# Altium footprint library A_Semi.PcbLib: 47 footprints (part 2 of 3)
Each footprint in its own frame and in the unit in brackets; x right, y up, seen from the top. Pads: shape width x height; smd on the part's side, far side on the other; paste and mask are expansions set on the pad; w line width, h text height; cw(c..) or ccw(c..) is an arc to the next point about the centre after c.
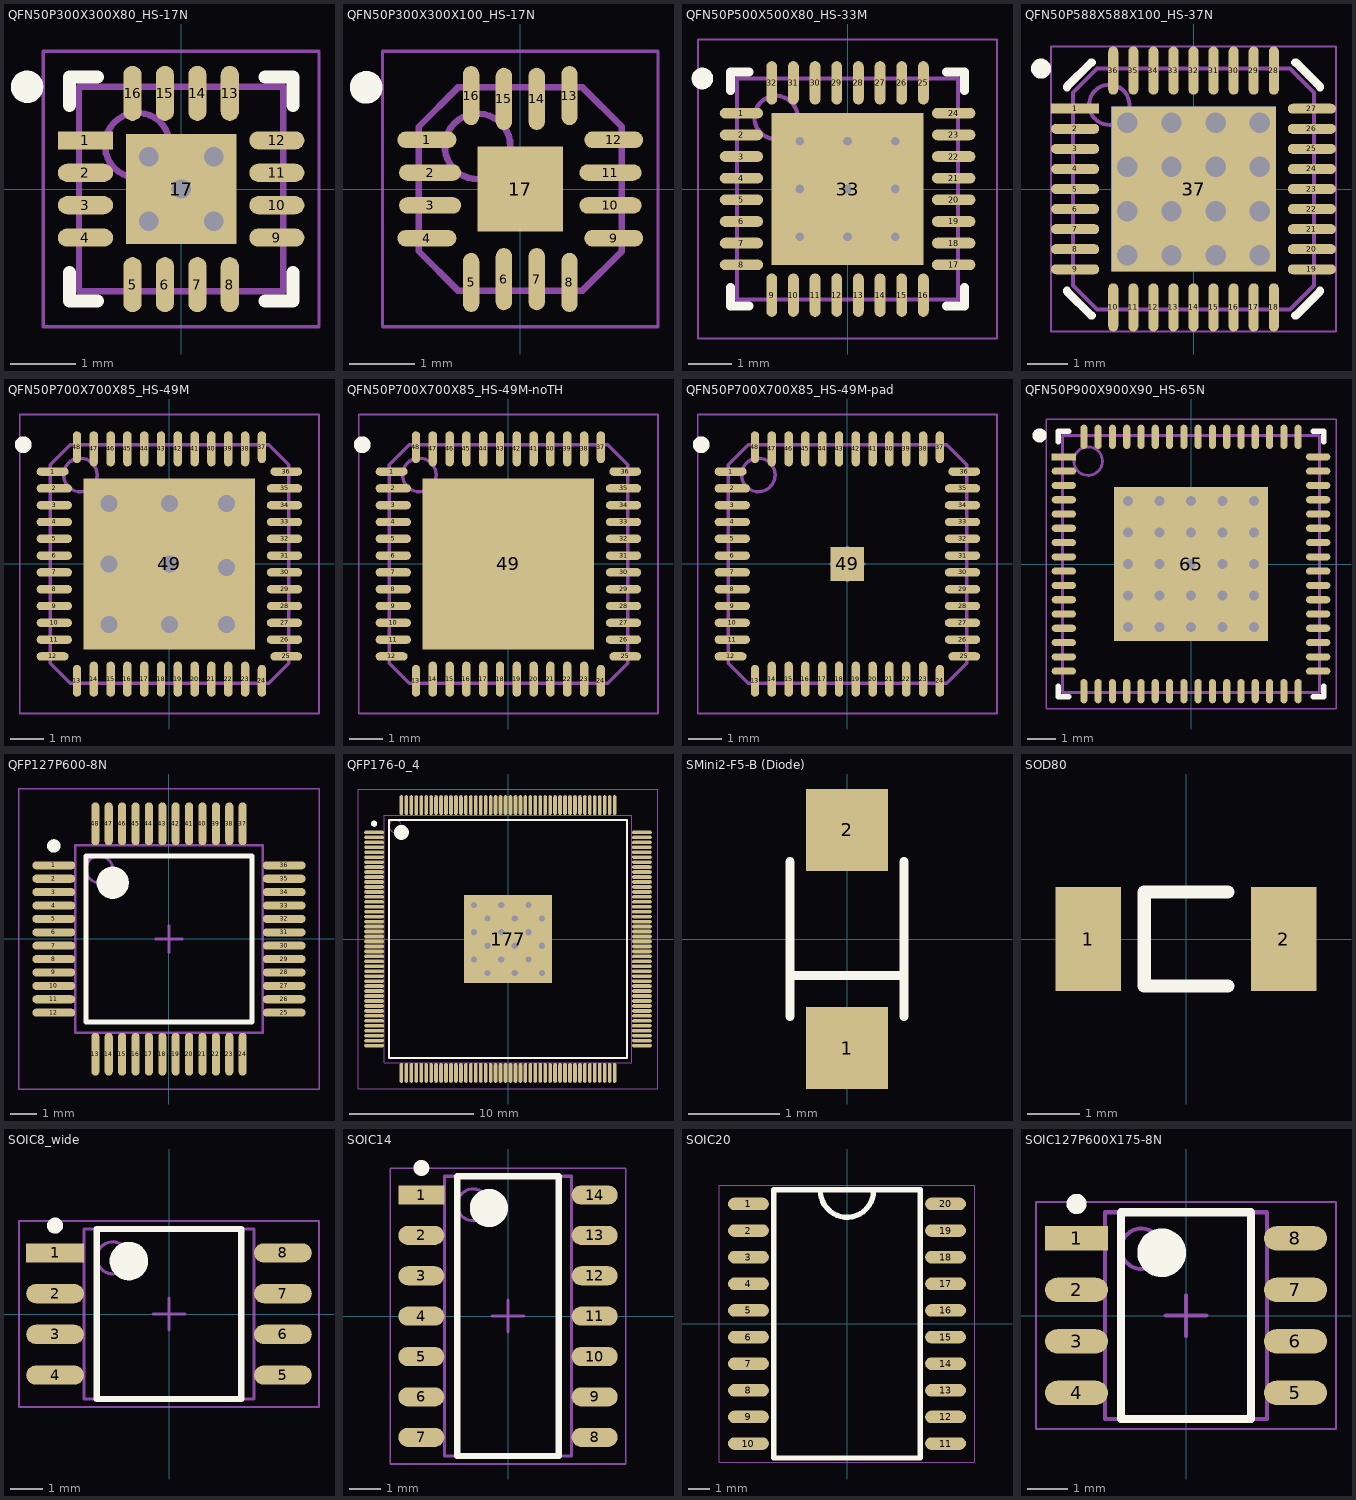
[diagram p1: the footprints below, top view; thin cyan lines are the x and y axes]

## QFN50P300X300X80_HS-17N [mm] "QFN, 16-Leads, Body 3.00x3.00mm, Pitch 0.50mm, Thermal Pad 1.70x1.70mm, IPC Medium Density"
height 0.8
pads (17):
  rect 0.85x0.28 smd mask+0.08: 1(-1.475,0.75)
  oval 0.85x0.28 smd mask+0.08: 2(-1.475,0.25) 3(-1.475,-0.25) 4(-1.475,-0.75) 9(1.475,-0.75) 10(1.475,-0.25) 11(1.475,0.25) 12(1.475,0.75)
  oval 0.28x0.85 smd mask+0.08: 5(-0.75,-1.475) 6(-0.25,-1.475) 7(0.25,-1.475) 8(0.75,-1.475) 13(0.75,1.475) 14(0.25,1.475) 15(-0.25,1.475) 16(-0.75,1.475)
  rect 1.7x1.7 smd mask+0.08: 17(0,0)
via 0.5,0.5 diameter 0.6 hole 0.3
via 0.5,-0.5 diameter 0.6 hole 0.3
via -0.5,-0.5 diameter 0.6 hole 0.3
via -0.5,0.5 diameter 0.6 hole 0.3
via 0,0 diameter 0.6 hole 0.3
Top Overlay:
  circle w0.25: c-2.375,1.575 r0.125
  lines w0.2: -1.725,-1.29 -1.725,-1.725 -1.29,-1.725 ; -1.725,1.29 -1.725,1.725 -1.29,1.725 ; 1.29,-1.725 1.725,-1.725 1.725,-1.29 ; 1.29,1.725 1.725,1.725 1.725,1.29
Mechanical 13:
  circle w0.1: c-0.675,0.675 r0.5
  lines w0.1: -1.575,-1.575 1.575,-1.575 1.575,1.575 -1.575,1.575 -1.575,-1.575
Mechanical 15:
  lines w0.05: -2.125,-2.125 2.125,-2.125 2.125,2.125 -2.125,2.125 -2.125,-2.125
  lines w0.1: -0.5,0 0.5,0 ; 0,-0.5 0,0.5
3D body: height 0.8, standoff 0.02, extent -1.575,-1.575 1.575,1.575

## QFN50P300X300X100_HS-17N [mm] "QFN, 16-Leads, Body 3.00x3.00mm, Pitch 0.50mm, Thermal Pad 1.40x1.40mm, IPC Medium Density"
height 1
pads (17):
  oval 0.9x0.25 smd: 1(-1.425,0.75) 4(-1.425,-0.75) 9(1.425,-0.75) 12(1.425,0.75)
  oval 0.95x0.25 smd: 2(-1.375,0.25) 3(-1.375,-0.25) 10(1.375,-0.25) 11(1.375,0.25)
  oval 0.25x0.9 smd: 5(-0.75,-1.425) 8(0.75,-1.425) 13(0.75,1.425) 16(-0.75,1.425)
  oval 0.25x0.95 smd: 6(-0.25,-1.375) 7(0.25,-1.375) 14(0.25,1.375) 15(-0.25,1.375)
  rect 1.3x1.3 smd: 17(0,0)
Top Overlay:
  circle w0.25: c-2.35,1.55 r0.125
Mechanical 13:
  circle w0.1: c-0.65,0.65 r0.5
  lines w0.1: -1.55,-0.95 -0.95,-1.55 0.95,-1.55 1.55,-0.95 1.55,0.95 0.95,1.55 -0.95,1.55 -1.55,0.95 -1.55,-0.95
Mechanical 15:
  lines w0.05: -2.1,-2.1 -2.1,2.1 2.1,2.1 2.1,-2.1 -2.1,-2.1
  lines w0.1: -0.5,0 0.5,0 ; 0,-0.5 0,0.5
3D body "QFN50P300X300X100_HS-17N.step": height 1, standoff 0, extent -1.551,-1.551 1.551,1.551

## QFN50P500X500X80_HS-33M [mm] "QFN, 32-Leads, Body 5.00x5.00mm, Pitch 0.50mm, Thermal Pad 3.50x3.50mm, IPC Low Density"
height 0.8
pads (33):
  oval 1x0.25 smd: 1(-2.45,1.75) 2(-2.45,1.25) 3(-2.45,0.75) 4(-2.45,0.25) 5(-2.45,-0.25) 6(-2.45,-0.75) 7(-2.45,-1.25) 8(-2.45,-1.75) 17(2.45,-1.75) 18(2.45,-1.25) 19(2.45,-0.75) 20(2.45,-0.25) 21(2.45,0.25) 22(2.45,0.75) 23(2.45,1.25) 24(2.45,1.75)
  oval 0.25x1 smd: 9(-1.75,-2.45) 10(-1.25,-2.45) 11(-0.75,-2.45) 12(-0.25,-2.45) 13(0.25,-2.45) 14(0.75,-2.45) 15(1.25,-2.45) 16(1.75,-2.45) 25(1.75,2.45) 26(1.25,2.45) 27(0.75,2.45) 28(0.25,2.45) 29(-0.25,2.45) 30(-0.75,2.45) 31(-1.25,2.45) 32(-1.75,2.45)
  rect 3.5x3.5 smd: 33(0,0)
via 1.1,-1.1 diameter 0.5 hole 0.2
via 0,-1.1 diameter 0.5 hole 0.2
via -1.1,-1.1 diameter 0.5 hole 0.2
via 1.1,0 diameter 0.5 hole 0.2
via 0,0 diameter 0.5 hole 0.2
via -1.1,0 diameter 0.5 hole 0.2
via 1.1,1.1 diameter 0.5 hole 0.2
via 0,1.1 diameter 0.5 hole 0.2
via -1.1,1.1 diameter 0.5 hole 0.2
Top Overlay:
  circle w0.25: c-3.35,2.55 r0.125
  lines w0.2: -2.7,-2.275 -2.7,-2.7 -2.275,-2.7 ; -2.7,2.275 -2.7,2.7 -2.275,2.7 ; 2.275,-2.7 2.7,-2.7 2.7,-2.275 ; 2.275,2.7 2.7,2.7 2.7,2.275
Mechanical 13:
  circle w0.1: c-1.65,1.65 r0.5
  lines w0.1: -2.55,-2.55 2.55,-2.55 2.55,2.55 -2.55,2.55 -2.55,-2.55
Mechanical 15:
  lines w0.05: -3.45,-3.45 3.45,-3.45 3.45,3.45 -3.45,3.45 -3.45,-3.45
  lines w0.1: -0.5,0 0.5,0 ; 0,-0.5 0,0.5
3D body: height 0.8, standoff 0.01, extent -2.55,-2.55 2.55,2.55

## QFN50P588X588X100_HS-37N [mm] "QFN, 36-Leads, Body 5.88x5.88mm, Pitch 0.50mm, Thermal Pad 4.10x4.10mm, IPC Medium Density"
height 1
pads (38):
  rect 1.2x0.25 smd mask+0.076: 1(-2.95,2)
  oval 1.2x0.25 smd mask+0.076: 2(-2.95,1.5) 3(-2.95,1) 4(-2.95,0.5) 5(-2.95,0) 6(-2.95,-0.5) 7(-2.95,-1) 8(-2.95,-1.5) 9(-2.95,-2) 19(2.95,-2) 20(2.95,-1.5) 21(2.95,-1) 22(2.95,-0.5) 23(2.95,0) 24(2.95,0.5) 25(2.95,1) 26(2.95,1.5) 27(2.95,2)
  oval 0.25x1.2 smd mask+0.076: 10(-2,-2.95) 11(-1.5,-2.95) 12(-1,-2.95) 13(-0.5,-2.95) 14(0,-2.95) 15(0.5,-2.95) 16(1,-2.95) 17(1.5,-2.95) 18(2,-2.95) 28(2,2.95) 29(1.5,2.95) 30(1,2.95) 31(0.5,2.95) 32(0,2.95) 33(-0.5,2.95) 34(-1,2.95) 35(-1.5,2.95) 36(-2,2.95)
  rect 4.1x4.1 smd: 37(0,0)
  rect 4.1x4.1 smd far side: 37(0,0)
via -1.65,1.65 diameter 0.762 hole 0.508
via -0.55,1.65 diameter 0.762 hole 0.508
via 0.55,1.65 diameter 0.762 hole 0.508
via 1.65,1.65 diameter 0.762 hole 0.508
via -1.65,0.55 diameter 0.762 hole 0.508
via -0.55,0.55 diameter 0.762 hole 0.508
via 0.55,0.55 diameter 0.762 hole 0.508
via 1.65,0.55 diameter 0.762 hole 0.508
via -1.65,-0.55 diameter 0.762 hole 0.508
via -0.55,-0.55 diameter 0.762 hole 0.508
via 0.55,-0.55 diameter 0.762 hole 0.508
via 1.65,-0.55 diameter 0.762 hole 0.508
via -1.65,-1.65 diameter 0.762 hole 0.508
via -0.55,-1.65 diameter 0.762 hole 0.508
via 0.55,-1.65 diameter 0.762 hole 0.508
via 1.65,-1.65 diameter 0.762 hole 0.508
Top Overlay:
  circle w0.25: c-3.8,3 r0.125
  lines w0.2: -3.15,-2.525 -3.15,-2.55 -2.55,-3.15 -2.525,-3.15 ; -3.15,2.525 -3.15,2.55 -2.55,3.15 -2.525,3.15 ; 2.525,-3.15 2.55,-3.15 3.15,-2.55 3.15,-2.525 ; 2.525,3.15 2.55,3.15 3.15,2.55 3.15,2.525
Mechanical 13:
  circle w0.1: c-2.1,2.1 r0.5
  lines w0.1: -3,-2.4 -2.4,-3 2.4,-3 3,-2.4 3,2.4 2.4,3 -2.4,3 -3,2.4 -3,-2.4
Mechanical 15:
  lines w0.05: -3.55,-3.55 -3.55,3.55 3.55,3.55 3.55,-3.55 -3.55,-3.55
  lines w0.1: -0.5,0 0.5,0 ; 0,-0.5 0,0.5
3D body: height 1, standoff 0, extent -3,-3 3,3

## QFN50P700X700X85_HS-49M [mm] "QFN, 48-Leads, Body 7.00x7.00mm, Pitch 0.50mm, Thermal Pad 5.10x5.10mm, IPC Low Density"
height 0.85
pads (49):
  oval 0.95x0.25 smd: 1(-3.475,2.75) 12(-3.475,-2.75) 25(3.475,-2.75) 36(3.475,2.75)
  oval 1.05x0.25 smd: 2(-3.425,2.25) 3(-3.425,1.75) 4(-3.425,1.25) 5(-3.425,0.75) 6(-3.425,0.25) 7(-3.425,-0.25) 8(-3.425,-0.75) 9(-3.425,-1.25) 10(-3.425,-1.75) 11(-3.425,-2.25) 26(3.425,-2.25) 27(3.425,-1.75) 28(3.425,-1.25) 29(3.425,-0.75) 30(3.425,-0.25) 31(3.425,0.25) 32(3.425,0.75) 33(3.425,1.25) 34(3.425,1.75) 35(3.425,2.25)
  oval 0.25x0.95 smd: 13(-2.75,-3.475) 24(2.75,-3.475) 37(2.75,3.475) 48(-2.75,3.475)
  oval 0.25x1.05 smd: 14(-2.25,-3.425) 15(-1.75,-3.425) 16(-1.25,-3.425) 17(-0.75,-3.425) 18(-0.25,-3.425) 19(0.25,-3.425) 20(0.75,-3.425) 21(1.25,-3.425) 22(1.75,-3.425) 23(2.25,-3.425) 38(2.25,3.425) 39(1.75,3.425) 40(1.25,3.425) 41(0.75,3.425) 42(0.25,3.425) 43(-0.25,3.425) 44(-0.75,3.425) 45(-1.25,3.425) 46(-1.75,3.425) 47(-2.25,3.425)
  rect 5.1x5.1 smd: 49(0,0)
via -1.8,0 diameter 1.2 hole 0.5
via -1.8,1.8 diameter 1.2 hole 0.5
via 0,1.8 diameter 1.2 hole 0.5
via 1.7,1.8 diameter 1.2 hole 0.5
via 1.7,-0.1 diameter 1.2 hole 0.5
via 1.7,-1.8 diameter 1.2 hole 0.5
via 0,-1.8 diameter 1.2 hole 0.5
via -1.8,-1.8 diameter 1.2 hole 0.5
via 0,0 diameter 1.2 hole 0.5
Top Overlay:
  circle w0.25: c-4.35,3.55 r0.125
Mechanical 13:
  circle w0.1: c-2.65,2.65 r0.5
  lines w0.1: -3.55,-2.95 -2.95,-3.55 2.95,-3.55 3.55,-2.95 3.55,2.95 2.95,3.55 -2.95,3.55 -3.55,2.95 -3.55,-2.95
Mechanical 15:
  lines w0.05: -4.45,-4.45 -4.45,4.45 4.45,4.45 4.45,-4.45 -4.45,-4.45
  lines w0.1: -0.5,0 0.5,0 ; 0,-0.5 0,0.5
3D body "QFN50P700X700X85_HS-49M.step": height 0.85, standoff 0, extent -3.551,-3.551 3.551,3.551

## QFN50P700X700X85_HS-49M-noTH [mm] "QFN, 48-Leads, Body 7.00x7.00mm, Pitch 0.50mm, Thermal Pad 5.10x5.10mm, IPC Low Density"
height 0.85
pads (49):
  oval 0.95x0.25 smd: 1(-3.475,2.75) 12(-3.475,-2.75) 25(3.475,-2.75) 36(3.475,2.75)
  oval 1.05x0.25 smd: 2(-3.425,2.25) 3(-3.425,1.75) 4(-3.425,1.25) 5(-3.425,0.75) 6(-3.425,0.25) 7(-3.425,-0.25) 8(-3.425,-0.75) 9(-3.425,-1.25) 10(-3.425,-1.75) 11(-3.425,-2.25) 26(3.425,-2.25) 27(3.425,-1.75) 28(3.425,-1.25) 29(3.425,-0.75) 30(3.425,-0.25) 31(3.425,0.25) 32(3.425,0.75) 33(3.425,1.25) 34(3.425,1.75) 35(3.425,2.25)
  oval 0.25x0.95 smd: 13(-2.75,-3.475) 24(2.75,-3.475) 37(2.75,3.475) 48(-2.75,3.475)
  oval 0.25x1.05 smd: 14(-2.25,-3.425) 15(-1.75,-3.425) 16(-1.25,-3.425) 17(-0.75,-3.425) 18(-0.25,-3.425) 19(0.25,-3.425) 20(0.75,-3.425) 21(1.25,-3.425) 22(1.75,-3.425) 23(2.25,-3.425) 38(2.25,3.425) 39(1.75,3.425) 40(1.25,3.425) 41(0.75,3.425) 42(0.25,3.425) 43(-0.25,3.425) 44(-0.75,3.425) 45(-1.25,3.425) 46(-1.75,3.425) 47(-2.25,3.425)
  rect 5.1x5.1 smd: 49(0,0)
Top Overlay:
  circle w0.25: c-4.35,3.55 r0.125
Mechanical 13:
  circle w0.1: c-2.65,2.65 r0.5
  lines w0.1: -3.55,-2.95 -3.55,2.95 -2.95,3.55 2.95,3.55 3.55,2.95 3.55,-2.95 2.95,-3.55 -2.95,-3.55 -3.55,-2.95
Mechanical 15:
  lines w0.05: -4.45,-4.45 4.45,-4.45 4.45,4.45 -4.45,4.45 -4.45,-4.45
  lines w0.1: -0.5,0 0.5,0 ; 0,-0.5 0,0.5
3D body "QFN50P700X700X85_HS-49M.step": height 0.85, standoff 0, extent -3.551,-3.551 3.551,3.551

## QFN50P700X700X85_HS-49M-pad [mm] "QFN, 48-Leads, Body 7.00x7.00mm, Pitch 0.50mm, Thermal Pad 5.10x5.10mm, IPC Low Density"
height 0.85
pads (49):
  oval 0.95x0.25 smd: 1(-3.475,2.75) 12(-3.475,-2.75) 25(3.475,-2.75) 36(3.475,2.75)
  oval 1.05x0.25 smd: 2(-3.425,2.25) 3(-3.425,1.75) 4(-3.425,1.25) 5(-3.425,0.75) 6(-3.425,0.25) 7(-3.425,-0.25) 8(-3.425,-0.75) 9(-3.425,-1.25) 10(-3.425,-1.75) 11(-3.425,-2.25) 26(3.425,-2.25) 27(3.425,-1.75) 28(3.425,-1.25) 29(3.425,-0.75) 30(3.425,-0.25) 31(3.425,0.25) 32(3.425,0.75) 33(3.425,1.25) 34(3.425,1.75) 35(3.425,2.25)
  oval 0.25x0.95 smd: 13(-2.75,-3.475) 24(2.75,-3.475) 37(2.75,3.475) 48(-2.75,3.475)
  oval 0.25x1.05 smd: 14(-2.25,-3.425) 15(-1.75,-3.425) 16(-1.25,-3.425) 17(-0.75,-3.425) 18(-0.25,-3.425) 19(0.25,-3.425) 20(0.75,-3.425) 21(1.25,-3.425) 22(1.75,-3.425) 23(2.25,-3.425) 38(2.25,3.425) 39(1.75,3.425) 40(1.25,3.425) 41(0.75,3.425) 42(0.25,3.425) 43(-0.25,3.425) 44(-0.75,3.425) 45(-1.25,3.425) 46(-1.75,3.425) 47(-2.25,3.425)
  rect 1x1 smd: 49(0,0)
Top Overlay:
  circle w0.25: c-4.35,3.55 r0.125
Mechanical 13:
  circle w0.1: c-2.65,2.65 r0.5
  lines w0.1: -3.55,-2.95 -3.55,2.95 -2.95,3.55 2.95,3.55 3.55,2.95 3.55,-2.95 2.95,-3.55 -2.95,-3.55 -3.55,-2.95
Mechanical 15:
  lines w0.05: -4.45,-4.45 4.45,-4.45 4.45,4.45 -4.45,4.45 -4.45,-4.45
  lines w0.1: -0.5,0 0.5,0 ; 0,-0.5 0,0.5
3D body "QFN50P700X700X85_HS-49M.step": height 0.85, standoff 0, extent -3.551,-3.551 3.551,3.551

## QFN50P900X900X90_HS-65N [mm] "QFN, 64-Leads, Body 9.00x9.00mm, Pitch 0.50mm, Thermal Pad 5.40x5.40mm, IPC Medium Density"
height 0.9
pads (65):
  rect 0.85x0.25 smd: 1(-4.45,3.75)
  oval 0.85x0.25 smd: 2(-4.45,3.25) 3(-4.45,2.75) 4(-4.45,2.25) 5(-4.45,1.75) 6(-4.45,1.25) 7(-4.45,0.75) 8(-4.45,0.25) 9(-4.45,-0.25) 10(-4.45,-0.75) 11(-4.45,-1.25) 12(-4.45,-1.75) 13(-4.45,-2.25) 14(-4.45,-2.75) 15(-4.45,-3.25) 16(-4.45,-3.75) 33(4.45,-3.75) 34(4.45,-3.25) 35(4.45,-2.75) 36(4.45,-2.25) 37(4.45,-1.75) 38(4.45,-1.25) 39(4.45,-0.75) 40(4.45,-0.25) 41(4.45,0.25) 42(4.45,0.75) 43(4.45,1.25) 44(4.45,1.75) 45(4.45,2.25) 46(4.45,2.75) 47(4.45,3.25) 48(4.45,3.75)
  oval 0.25x0.85 smd: 17(-3.75,-4.45) 18(-3.25,-4.45) 19(-2.75,-4.45) 20(-2.25,-4.45) 21(-1.75,-4.45) 22(-1.25,-4.45) 23(-0.75,-4.45) 24(-0.25,-4.45) 25(0.25,-4.45) 26(0.75,-4.45) 27(1.25,-4.45) 28(1.75,-4.45) 29(2.25,-4.45) 30(2.75,-4.45) 31(3.25,-4.45) 32(3.75,-4.45) 49(3.75,4.45) 50(3.25,4.45) 51(2.75,4.45) 52(2.25,4.45) 53(1.75,4.45) 54(1.25,4.45) 55(0.75,4.45) 56(0.25,4.45) 57(-0.25,4.45) 58(-0.75,4.45) 59(-1.25,4.45) 60(-1.75,4.45) 61(-2.25,4.45) 62(-2.75,4.45) 63(-3.25,4.45) 64(-3.75,4.45)
  rect 5.4x5.4 smd: 65(0,0)
via -2.2,2.2 diameter 0.65 hole 0.35
via -1.1,2.2 diameter 0.65 hole 0.35
via 0,2.2 diameter 0.65 hole 0.35
via 1.1,2.2 diameter 0.65 hole 0.35
via 2.2,2.2 diameter 0.65 hole 0.35
via -2.2,1.1 diameter 0.65 hole 0.35
via -1.1,1.1 diameter 0.65 hole 0.35
via 0,1.1 diameter 0.65 hole 0.35
via 1.1,1.1 diameter 0.65 hole 0.35
via 2.2,1.1 diameter 0.65 hole 0.35
via -2.2,0 diameter 0.65 hole 0.35
via -1.1,0 diameter 0.65 hole 0.35
via 0,0 diameter 0.65 hole 0.35
via 1.1,0 diameter 0.65 hole 0.35
via 2.2,0 diameter 0.65 hole 0.35
via -2.2,-1.1 diameter 0.65 hole 0.35
via -1.1,-1.1 diameter 0.65 hole 0.35
via 0,-1.1 diameter 0.65 hole 0.35
via 1.1,-1.1 diameter 0.65 hole 0.35
via 2.2,-1.1 diameter 0.65 hole 0.35
via -2.2,-2.2 diameter 0.65 hole 0.35
via -1.1,-2.2 diameter 0.65 hole 0.35
via 0,-2.2 diameter 0.65 hole 0.35
via 1.1,-2.2 diameter 0.65 hole 0.35
via 2.2,-2.2 diameter 0.65 hole 0.35
Top Overlay:
  circle w0.25: c-5.3,4.5 r0.125
  lines w0.2: -4.65,-4.275 -4.65,-4.65 -4.275,-4.65 ; -4.65,4.275 -4.65,4.65 -4.275,4.65 ; 4.275,-4.65 4.65,-4.65 4.65,-4.275 ; 4.275,4.65 4.65,4.65 4.65,4.275
Bottom Solder:
  region: -2.8,2.8 2.8,2.8 2.8,-2.8 -2.8,-2.8
Mechanical 13:
  circle w0.1: c-3.6,3.6 r0.5
  lines w0.1: -4.5,-4.5 -4.5,4.5 4.5,4.5 4.5,-4.5 -4.5,-4.5
Mechanical 15:
  lines w0.05: -5.075,-5.075 -5.075,5.075 5.075,5.075 5.075,-5.075 -5.075,-5.075
  lines w0.1: -0.5,0 0.5,0 ; 0,-0.5 0,0.5
3D body "QFN50P900X900X90_HS-65N.step": height 0.9, standoff 0, extent -4.52,-4.52 4.52,4.52

## QFP127P600-8N [mm]
height 1.6
pads (48):
  oval 1.6x0.3 smd: 1(-4.3,2.75) 2(-4.3,2.25) 3(-4.3,1.75) 4(-4.3,1.25) 5(-4.3,0.75) 6(-4.3,0.25) 7(-4.3,-0.25) 8(-4.3,-0.75) 9(-4.3,-1.25) 10(-4.3,-1.75) 11(-4.3,-2.25) 12(-4.3,-2.75) 25(4.3,-2.75) 26(4.3,-2.25) 27(4.3,-1.75) 28(4.3,-1.25) 29(4.3,-0.75) 30(4.3,-0.25) 31(4.3,0.25) 32(4.3,0.75) 33(4.3,1.25) 34(4.3,1.75) 35(4.3,2.25) 36(4.3,2.75)
  oval 0.3x1.6 smd: 13(-2.75,-4.3) 14(-2.25,-4.3) 15(-1.75,-4.3) 16(-1.25,-4.3) 17(-0.75,-4.3) 18(-0.25,-4.3) 19(0.25,-4.3) 20(0.75,-4.3) 21(1.25,-4.3) 22(1.75,-4.3) 23(2.25,-4.3) 24(2.75,-4.3) 37(2.75,4.3) 38(2.25,4.3) 39(1.75,4.3) 40(1.25,4.3) 41(0.75,4.3) 42(0.25,4.3) 43(-0.25,4.3) 44(-0.75,4.3) 45(-1.25,4.3) 46(-1.75,4.3) 47(-2.25,4.3) 48(-2.75,4.3)
Top Overlay:
  circle w0.6: c-2.1,2.1 r0.3
  circle w0.25: c-4.3,3.475 r0.125
  lines w0.2: -3.1,-3.1 3.1,-3.1 3.1,3.1 -3.1,3.1 -3.1,-3.1
Mechanical 13:
  circle w0.1: c-2.6,2.6 r0.5
  lines w0.1: -3.5,-3.5 3.5,-3.5 3.5,3.5 -3.5,3.5 -3.5,-3.5
Mechanical 15:
  lines w0.05: -5.6,-5.6 5.6,-5.6 5.6,5.6 -5.6,5.6 -5.6,-5.6
  lines w0.1: -0.5,0 0.5,0 ; 0,-0.5 0,0.5
3D body "QFP127P600-8N.step": height 1.6, standoff 0, extent -4.5,-4.5 4.5,4.5

## QFP176-0_4 [mm]
height 1.6
pads (177):
  oval 1.6x0.3 smd: 1(-10.8,8.6) 2(-10.8,8.2) 3(-10.8,7.8) 4(-10.8,7.4) 5(-10.8,7) 6(-10.8,6.6) 7(-10.8,6.2) 8(-10.8,5.8) 9(-10.8,5.4) 10(-10.8,5) 11(-10.8,4.6) 12(-10.8,4.2) 13(-10.8,3.8) 14(-10.8,3.4) 15(-10.8,3) 16(-10.8,2.6) 17(-10.8,2.2) 18(-10.8,1.8) 19(-10.8,1.4) 20(-10.8,1) 21(-10.8,0.6) 22(-10.8,0.2) 23(-10.8,-0.2) 24(-10.8,-0.6) 25(-10.8,-1) 26(-10.8,-1.4) 27(-10.8,-1.8) 28(-10.8,-2.2) 29(-10.8,-2.6) 30(-10.8,-3) 31(-10.8,-3.4) 32(-10.8,-3.8) 33(-10.8,-4.2) 34(-10.8,-4.6) 35(-10.8,-5) 36(-10.8,-5.4) 37(-10.8,-5.8) 38(-10.8,-6.2) 39(-10.8,-6.6) 40(-10.8,-7) 41(-10.8,-7.4) 42(-10.8,-7.8) 43(-10.8,-8.2) 44(-10.8,-8.6) 89(10.8,-8.6) 90(10.8,-8.2) 91(10.8,-7.8) 92(10.8,-7.4) 93(10.8,-7) 94(10.8,-6.6) 95(10.8,-6.2) 96(10.8,-5.8) 97(10.8,-5.4) 98(10.8,-5) 99(10.8,-4.6) 100(10.8,-4.2) 101(10.8,-3.8) 102(10.8,-3.4) 103(10.8,-3) 104(10.8,-2.6) 105(10.8,-2.2) 106(10.8,-1.8) 107(10.8,-1.4) 108(10.8,-1) 109(10.8,-0.6) 110(10.8,-0.2) 111(10.8,0.2) 112(10.8,0.6) 113(10.8,1) 114(10.8,1.4) 115(10.8,1.8) 116(10.8,2.2) 117(10.8,2.6) 118(10.8,3) 119(10.8,3.4) 120(10.8,3.8) 121(10.8,4.2) 122(10.8,4.6) 123(10.8,5) 124(10.8,5.4) 125(10.8,5.8) 126(10.8,6.2) 127(10.8,6.6) 128(10.8,7) 129(10.8,7.4) 130(10.8,7.8) 131(10.8,8.2) 132(10.8,8.6)
  oval 0.3x1.6 smd: 45(-8.6,-10.8) 46(-8.2,-10.8) 47(-7.8,-10.8) 48(-7.4,-10.8) 49(-7,-10.8) 50(-6.6,-10.8) 51(-6.2,-10.8) 52(-5.8,-10.8) 53(-5.4,-10.8) 54(-5,-10.8) 55(-4.6,-10.8) 56(-4.2,-10.8) 57(-3.8,-10.8) 58(-3.4,-10.8) 59(-3,-10.8) 60(-2.6,-10.8) 61(-2.2,-10.8) 62(-1.8,-10.8) 63(-1.4,-10.8) 64(-1,-10.8) 65(-0.6,-10.8) 66(-0.2,-10.8) 67(0.2,-10.8) 68(0.6,-10.8) 69(1,-10.8) 70(1.4,-10.8) 71(1.8,-10.8) 72(2.2,-10.8) 73(2.6,-10.8) 74(3,-10.8) 75(3.4,-10.8) 76(3.8,-10.8) 77(4.2,-10.8) 78(4.6,-10.8) 79(5,-10.8) 80(5.4,-10.8) 81(5.8,-10.8) 82(6.2,-10.8) 83(6.6,-10.8) 84(7,-10.8) 85(7.4,-10.8) 86(7.8,-10.8) 87(8.2,-10.8) 88(8.6,-10.8) 133(8.6,10.8) 134(8.2,10.8) 135(7.8,10.8) 136(7.4,10.8) 137(7,10.8) 138(6.6,10.8) 139(6.2,10.8) 140(5.8,10.8) 141(5.4,10.8) 142(5,10.8) 143(4.6,10.8) 144(4.2,10.8) 145(3.8,10.8) 146(3.4,10.8) 147(3,10.8) 148(2.6,10.8) 149(2.2,10.8) 150(1.8,10.8) 151(1.4,10.8) 152(1,10.8) 153(0.6,10.8) 154(0.2,10.8) 155(-0.2,10.8) 156(-0.6,10.8) 157(-1,10.8) 158(-1.4,10.8) 159(-1.8,10.8) 160(-2.2,10.8) 161(-2.6,10.8) 162(-3,10.8) 163(-3.4,10.8) 164(-3.8,10.8) 165(-4.2,10.8) 166(-4.6,10.8) 167(-5,10.8) 168(-5.4,10.8) 169(-5.8,10.8) 170(-6.2,10.8) 171(-6.6,10.8) 172(-7,10.8) 173(-7.4,10.8) 174(-7.8,10.8) 175(-8.2,10.8) 176(-8.6,10.8)
  rect 7.1x7.1 smd: 177(0,0)
via 1.65,0.55 diameter 1.2 hole 0.5
via -1.65,-2.75 diameter 1.2 hole 0.5
via 2.75,-2.75 diameter 1.2 hole 0.5
via 0.55,-2.75 diameter 1.2 hole 0.5
via 1.65,-1.65 diameter 1.2 hole 0.5
via -0.55,-1.65 diameter 1.2 hole 0.5
via -2.75,-1.65 diameter 1.2 hole 0.5
via 2.75,-0.55 diameter 1.2 hole 0.5
via 0.55,-0.55 diameter 1.2 hole 0.5
via -1.65,-0.55 diameter 1.2 hole 0.5
via -0.55,0.55 diameter 1.2 hole 0.5
via -2.75,0.55 diameter 1.2 hole 0.5
via 2.75,1.65 diameter 1.2 hole 0.5
via 0.55,1.65 diameter 1.2 hole 0.5
via -1.65,1.65 diameter 1.2 hole 0.5
via 1.65,2.75 diameter 1.2 hole 0.5
via -0.55,2.75 diameter 1.2 hole 0.5
via -2.75,2.75 diameter 1.2 hole 0.5
Top Overlay:
  circle w0.6: c-8.6,8.6 r0.3
  circle w0.25: c-10.8,9.3 r0.125
  lines w0.2: -9.6,-9.6 9.6,-9.6 9.6,9.6 -9.6,9.6 -9.6,-9.6
Mechanical 13:
  circle w0.1: c-9.1,9.1 r0.5
  lines w0.1: -10,-10 10,-10 10,10 -10,10 -10,-10
Mechanical 15:
  lines w0.05: -12.1,-12.1 12.1,-12.1 12.1,12.1 -12.1,12.1 -12.1,-12.1
  lines w0.1: -0.5,0 0.5,0 ; 0,-0.5 0,0.5
3D body "QFP176-0_4.step": height 1.6, standoff 0, extent -11,-11 11,11

## SMini2-F5-B (Diode) [mm] "Panasonic Schottky Diode"
pads (2):
  rect 0.9x0.9 smd: 1(0,-1.2) 2(0,1.2)
Top Overlay:
  lines w0.1: -0.625,-0.85 -0.625,0.85 ; -0.625,-0.4 0.625,-0.4 ; 0.625,-0.85 0.625,0.85
3D body "User Library-SMini2-F5-B.STEP": height 0.7, standoff 0, extent -0.625,-1.25 0.625,1.25

## SOD80 [mm] "MiniMELF"
pads (2):
  rect 1.25x2 smd: 1(-1.875,0) 2(1.875,0)
Top Overlay:
  lines w0.254: 0.8,-0.9 -0.8,-0.9 -0.8,0.9 0.8,0.9
3D body "SOD-80 QuadroMELF.stp": height 1.6, standoff 0, extent -1.85,-0.8 1.85,0.8

## SOIC8_wide [mm] "SOIC, 8-Leads, Body 5.26x5.25mm, Pitch 1.27mm, IPC Medium Density"
height 2.03
pads (8):
  rect 1.8x0.6 smd: 1(-3.55,1.905)
  oval 1.8x0.6 smd: 2(-3.55,0.635) 3(-3.55,-0.635) 4(-3.55,-1.905) 5(3.55,-1.905) 6(3.55,-0.635) 7(3.55,0.635) 8(3.55,1.905)
Top Overlay:
  circle w0.6: c-1.25,1.65 r0.3
  circle w0.25: c-3.55,2.755 r0.125
  lines w0.2: -2.25,-2.65 2.25,-2.65 2.25,2.65 -2.25,2.65 -2.25,-2.65
Mechanical 13:
  circle w0.1: c-1.75,1.75 r0.5
  lines w0.1: -2.65,-2.65 2.65,-2.65 2.65,2.65 -2.65,2.65 -2.65,-2.65
Mechanical 15:
  lines w0.05: -4.675,-2.9 4.675,-2.9 4.675,2.9 -4.675,2.9 -4.675,-2.9
  lines w0.1: -0.5,0 0.5,0 ; 0,-0.5 0,0.5
3D body "SOIC8.step": height 2.03, standoff 0, extent -4,-2.65 4,2.65

## SOIC14 [mm]
height 1.75
pads (14):
  rect 1.45x0.6 smd: 1(-2.725,3.81)
  oval 1.45x0.6 smd: 2(-2.725,2.54) 3(-2.725,1.27) 4(-2.725,0) 5(-2.725,-1.27) 6(-2.725,-2.54) 7(-2.725,-3.81) 8(2.725,-3.81) 9(2.725,-2.54) 10(2.725,-1.27) 11(2.725,0) 12(2.725,1.27) 13(2.725,2.54) 14(2.725,3.81)
Top Overlay:
  circle w0.6: c-0.6,3.4 r0.3
  circle w0.25: c-2.725,4.66 r0.125
  lines w0.2: -1.6,-4.4 1.6,-4.4 1.6,4.4 -1.6,4.4 -1.6,-4.4
Mechanical 13:
  circle w0.1: c-1.1,3.5 r0.5
  lines w0.1: -2,-4.4 2,-4.4 2,4.4 -2,4.4 -2,-4.4
Mechanical 15:
  lines w0.05: -3.7,-4.65 3.7,-4.65 3.7,4.65 -3.7,4.65 -3.7,-4.65
  lines w0.1: -0.5,0 0.5,0 ; 0,-0.5 0,0.5
3D body "SOIC14 narrow.stp": height 2, standoff 0, extent -3.082,-4.405 3.082,4.405

## SOIC20 [mm]
pads (20):
  oval 1.95x0.6 smd: 1(-4.7,5.715) 2(-4.7,4.445) 3(-4.7,3.175) 4(-4.7,1.905) 5(-4.7,0.635) 6(-4.7,-0.635) 7(-4.7,-1.905) 8(-4.7,-3.175) 9(-4.7,-4.445) 10(-4.7,-5.715) 11(4.7,-5.715) 12(4.7,-4.445) 13(4.7,-3.175) 14(4.7,-1.905) 15(4.7,-0.635) 16(4.7,0.635) 17(4.7,1.905) 18(4.7,3.175) 19(4.7,4.445) 20(4.7,5.715)
Top Overlay:
  lines w0.254: -1.27,6.4 ccw(c0,6.35) 1.27,6.35 ; -3.5,-6.4 3.5,-6.4 3.5,6.4 -3.5,6.4 -3.5,-6.4
Mechanical 15:
  lines w0.05: -6.096,-6.604 -6.096,6.604 0.508,6.604 6.096,6.604 6.096,-6.604 -6.096,-6.604
3D body "SOIC20 wide.stp": height 2, standoff 0, extent -5.082,-6.5 5.082,6.5

## SOIC127P600X175-8N [mm] "SOIC, 8-Leads, Body 4.95x3.90mm, Pitch 1.27mm, IPC Medium Density"
height 1.75
pads (8):
  rect 1.55x0.6 smd: 1(-2.7,1.905)
  oval 1.55x0.6 smd: 2(-2.7,0.635) 3(-2.7,-0.635) 4(-2.7,-1.905) 5(2.7,-1.905) 6(2.7,-0.635) 7(2.7,0.635) 8(2.7,1.905)
Top Overlay:
  circle w0.6: c-0.6,1.55 r0.3
  circle w0.25: c-2.7,2.755 r0.125
  lines w0.2: -1.6,-2.55 1.6,-2.55 1.6,2.55 -1.6,2.55 -1.6,-2.55
Mechanical 13:
  circle w0.1: c-1.1,1.65 r0.5
  lines w0.1: -2,-2.55 2,-2.55 2,2.55 -2,2.55 -2,-2.55
Mechanical 15:
  lines w0.05: -3.7,-2.8 3.7,-2.8 3.7,2.8 -3.7,2.8 -3.7,-2.8
  lines w0.1: -0.5,0 0.5,0 ; 0,-0.5 0,0.5
3D body "SOIC127P600X175-8N.step": height 1.9, standoff 0, extent -3.028,-2.5 3.028,2.5